# Altium schematic symbol library CBR04C270F5GAC.SchLib: 1 symbol
Pins are listed as number, name and electrical type; pins without a type are passive.

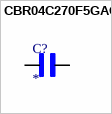
[diagram p0: symbol CBR04C270F5GAC]

## CBR04C270F5GAC
designator C?
Cap Ceramic 27pF 50V C0G 1% SMD 0402 125Â°C Punched Paper T/R; MF: KEMET; MP: CBR04C270F5GAC; SnapEDA_Link: https://www.snapeda.com/parts/CBR04C270F5GAC/KEMET/view-part/?ref=snap; Package: 1005 KEMET; Value: *; Check_prices: https://www.snapeda.com/parts/CBR04C270F5GAC/KEMET/view-part/?ref=eda
footprint CAPC1005X55N
pins: 1, 2